# Altium integrated library ON Semi Signal Management Signal Switches.IntLib: 212 symbols (part 4 of 6)
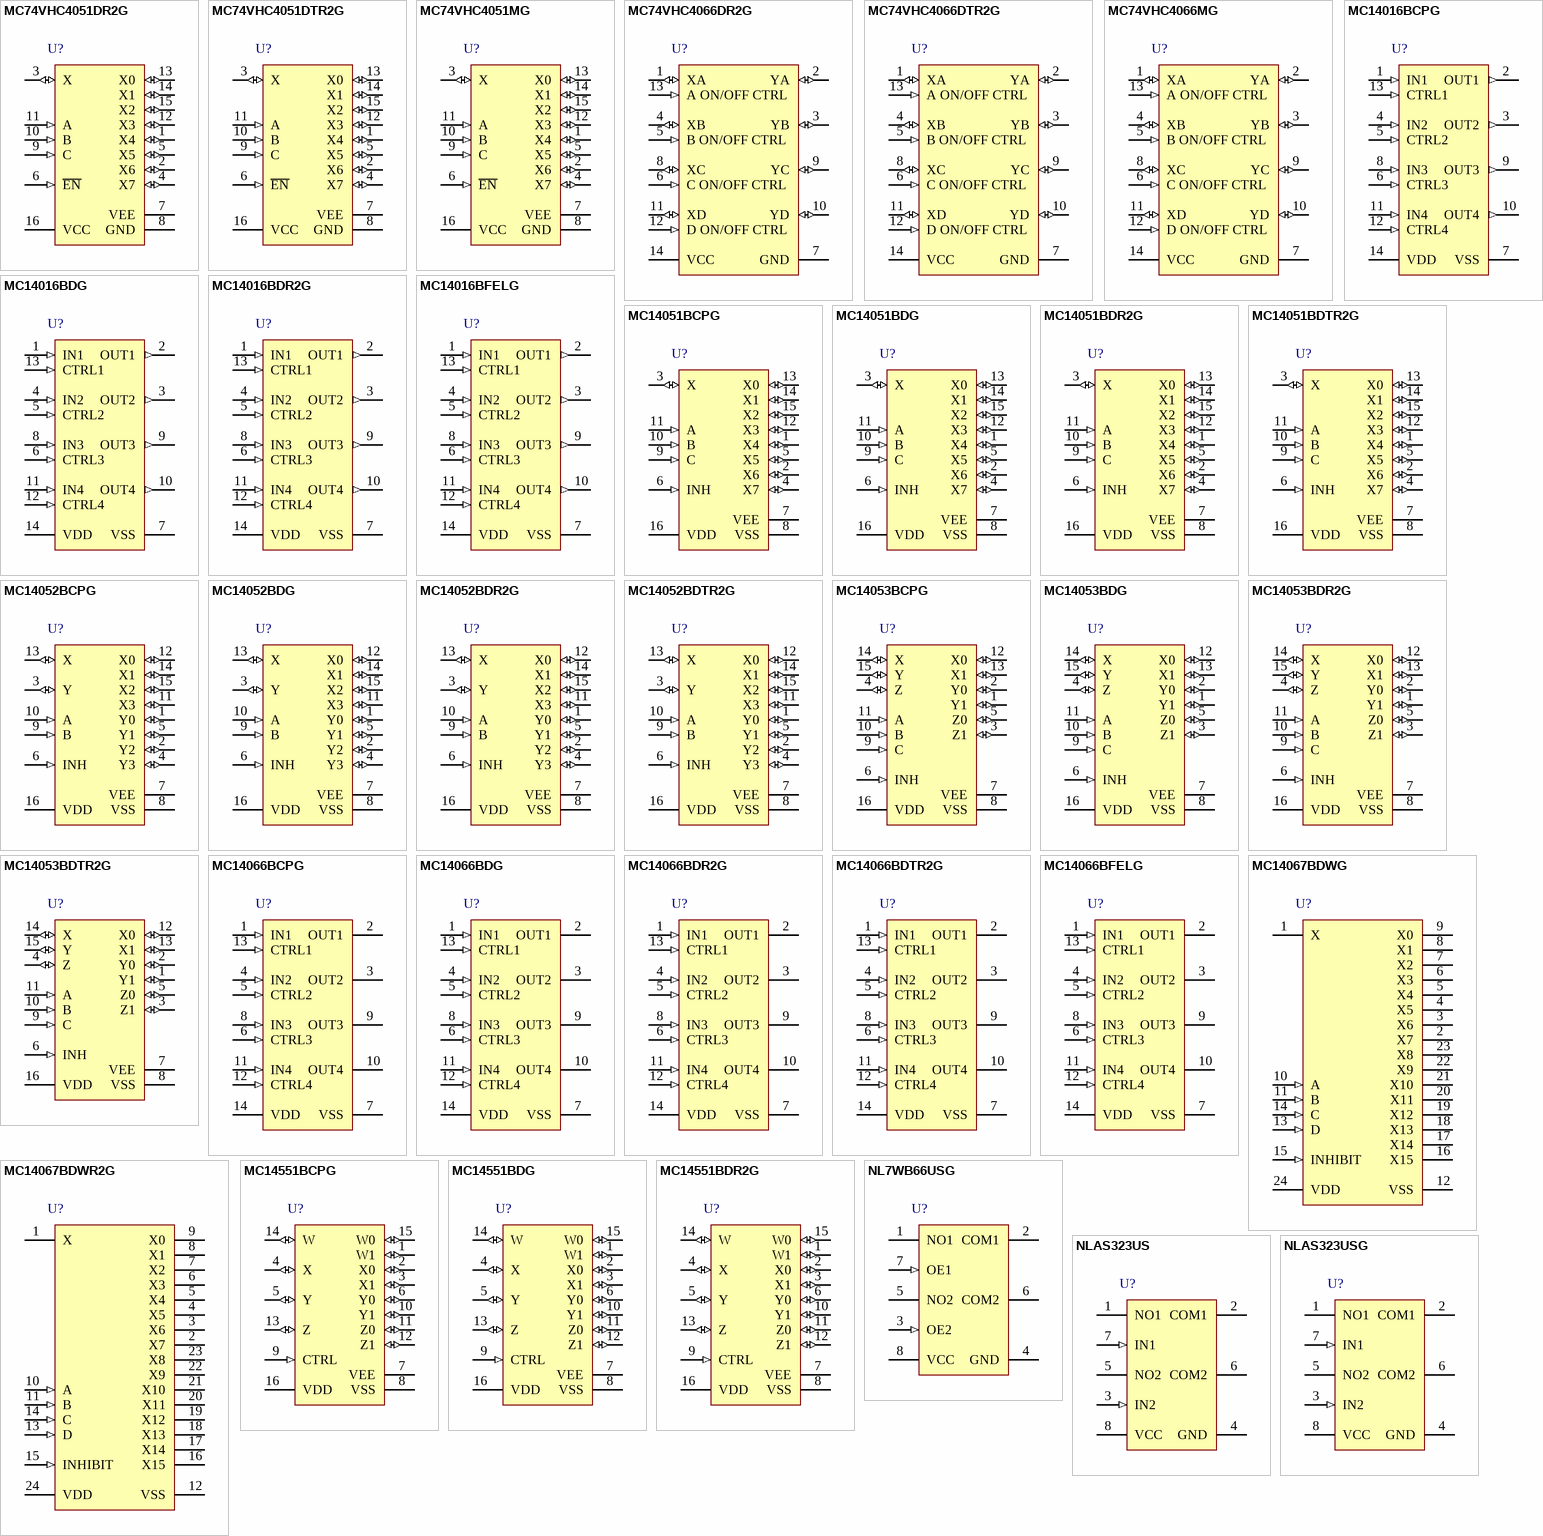
[diagram p9: symbols MC74VHC4051DR2G to NLAS323USG]

## NLAS323USG
designator U?
Dual SPST Analog Switch, Low Voltage, Single Supply, 2 to 5.5 V, -55 to 125 degC, 8-Pin US, Pb-Free, Tape and Reel; Manufacturer: On Semiconductor; PartNumber: NLAS323USG; Icc Max (uA): 2; VCC Max (V): 5.5; DatasheetVersion: Rev. 6; PackageVersion: Rev. A, 06/2003; PackageReference: US-8-493-02_A; PackageDescription: 8-Pin Small Outline Package, Body 2 x 2.3 mm, Pitch 0.5 mm; Supplier 1: Digi-Key; Supplier Part Number 1: NLAS323USGOSTR-ND; Supplier 2: Digi-Key; Supplier Part Number 2: NLAS323USGOSCT-ND; Supplier 3: Digi-Key; Supplier Part Number 3: NLAS323USGOSDKR-ND; Supplier 4: Newark; Supplier Part Number 4: 83H7730; Supplier 5: Mouser; Supplier Part Number 5: 863-NLAS323USG; Packing: Tape and Reel; RoHS: TRUE; VCC Min (V): 2; Mounting Technology: Surface Mount; ComponentLink1Description: Manufacturer URL; ComponentLink1URL: http://www.onsemi.com/; ComponentLink2Description: Datasheet; ComponentLink2URL: http://www.onsemi.com/pub_link/Collateral/NLAS323-D.PDF; ComponentLink3Description: Package Specification; ComponentLink3URL: http://www.onsemi.com/pub_link/Collateral/NLAS323-D.PDF
footprint ONSC-US-8-493-02_A_N (SOP, 8-Leads, Body 2.4x2.1mm, Pitch 0.5mm, IPC Medium Density)
footprint ONSC-US-8-493-02_A_L (SOP, 8-Leads, Body 2.4x2.1mm, Pitch 0.5mm, IPC High Density)
footprint ONSC-US-8-493-02_A_M (SOP, 8-Leads, Body 2.4x2.1mm, Pitch 0.5mm, IPC Low Density)
pins: 1 NO1, 2 COM1, 3 IN2 (in), 4 GND (power), 5 NO2, 6 COM2, 7 IN1 (in), 8 VCC (power)

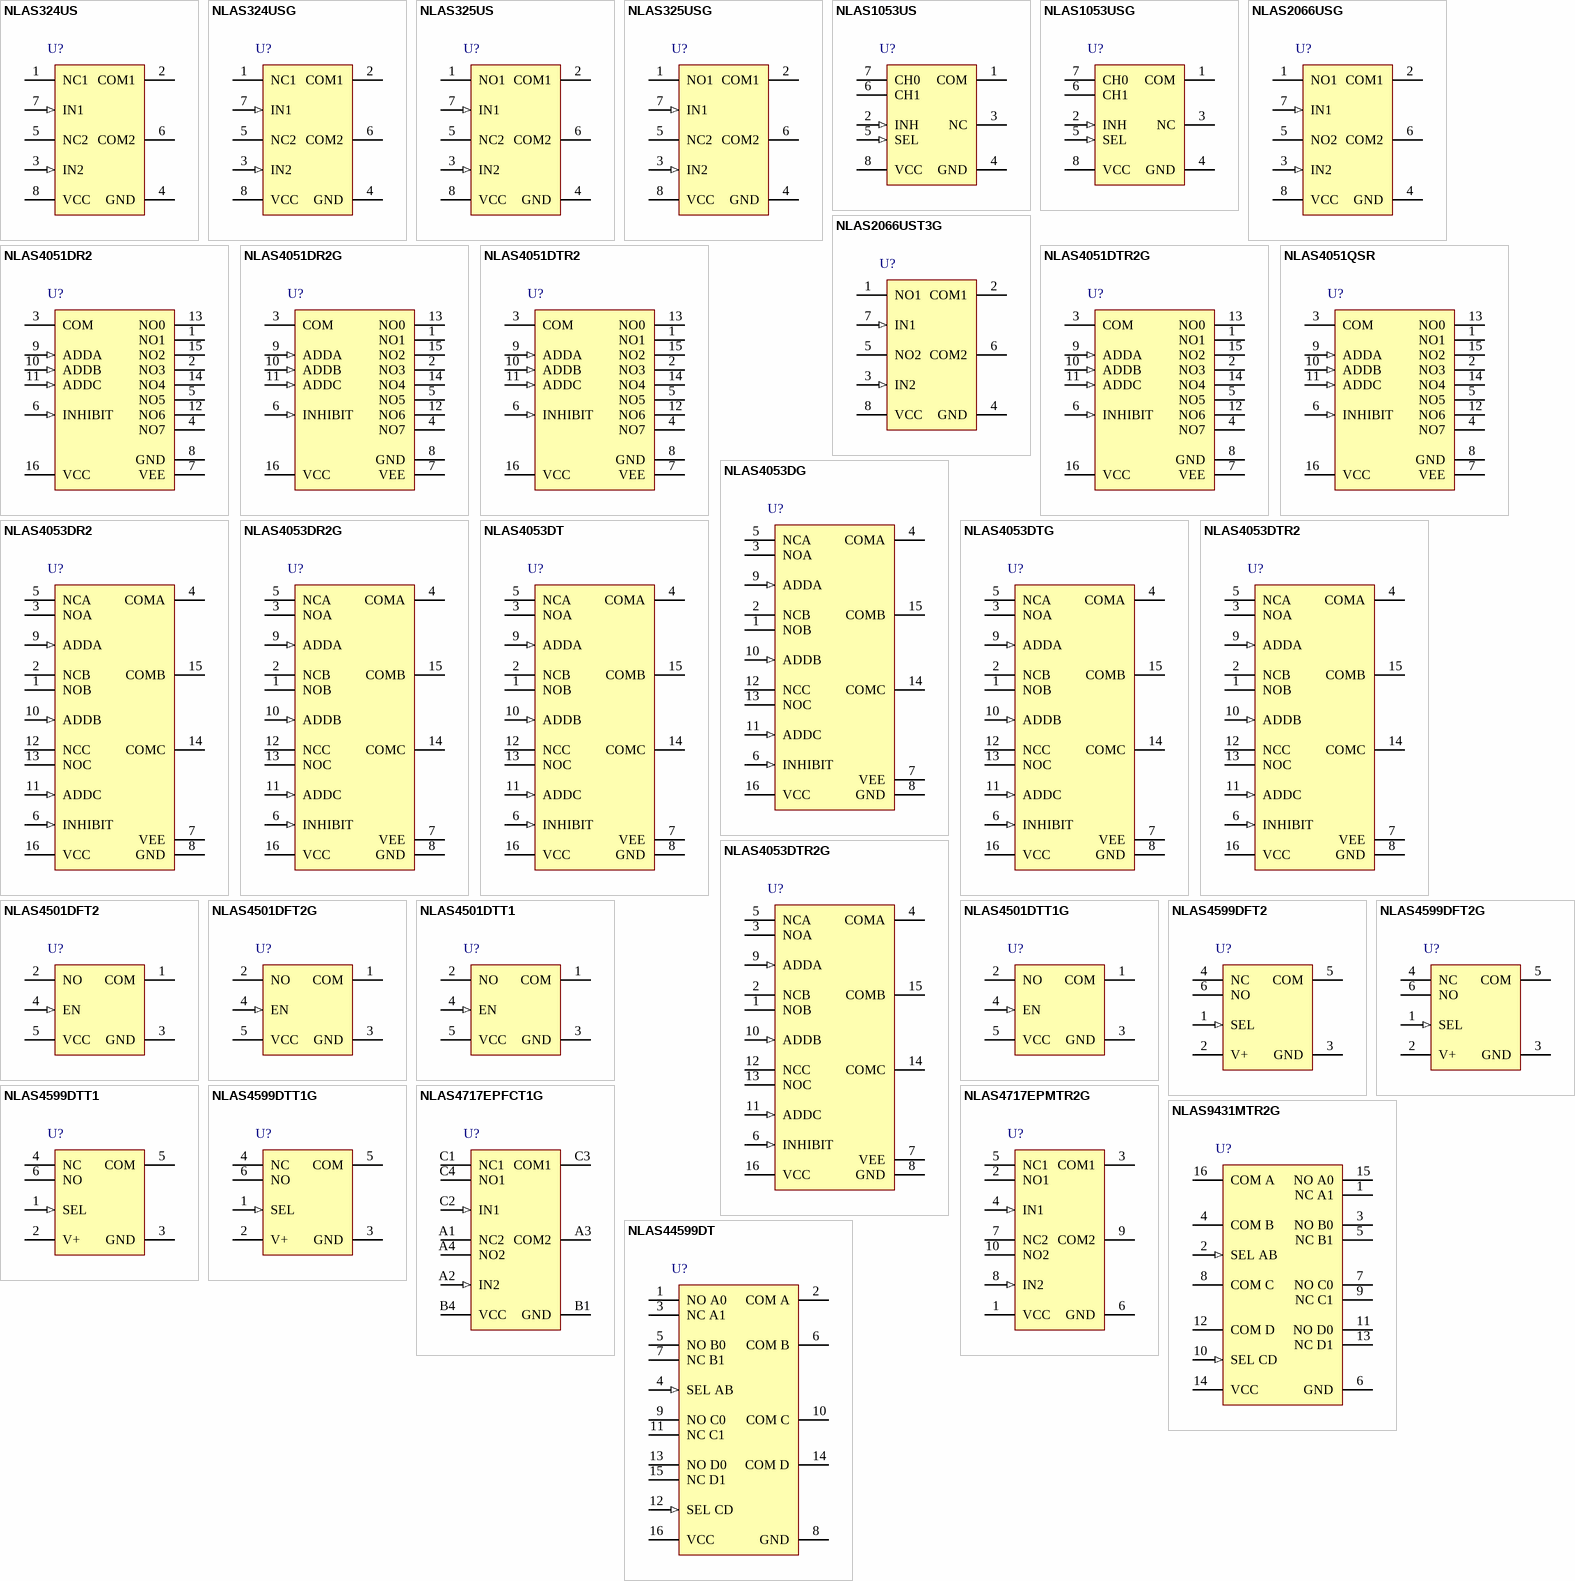
[diagram p3: symbols NLAS324US to NLAS44599DT]

## NLAS324US
designator U?
Dual SPST Analog Switch, Low Voltage, Single Supply, 2 to 5.5 V, -55 to 125 degC, 8-Pin US, Tape and Reel; Manufacturer: On Semiconductor; PartNumber: NLAS324US; Icc Max (uA): 2; VCC Max (V): 5.5; DatasheetVersion: Rev. 7; PackageVersion: Rev. B, 04/2006; PackageReference: US-8-493-02; PackageDescription: 8-Pin Small Outline Package, Body 2 x 2.3 mm, Pitch 0.5 mm; Supplier 1: Digi-Key; Supplier Part Number 1: NLAS324USOSTR-ND; Supplier 2: Digi-Key; Supplier Part Number 2: NLAS324USOSCT-ND; Packing: Tape and Reel; RoHS: FALSE; VCC Min (V): 2; Mounting Technology: Surface Mount; ComponentLink1Description: Manufacturer URL; ComponentLink1URL: http://www.onsemi.com/; ComponentLink2Description: Datasheet; ComponentLink2URL: http://www.onsemi.com/pub_link/Collateral/NLAS324-D.PDF; ComponentLink3Description: Package Specification; ComponentLink3URL: http://www.onsemi.com/pub_link/Collateral/493-01.PDF
footprint ONSC-US-8-493-02_V (SOP, 8-Leads, Body 2.4x2.1mm, Pitch 0.5mm)
pins: 1 NC1, 2 COM1, 3 IN2 (in), 4 GND (power), 5 NC2, 6 COM2, 7 IN1 (in), 8 VCC (power)

## NLAS324USG
designator U?
Dual SPST Analog Switch, Low Voltage, Single Supply, 2 to 5.5 V, -55 to 125 degC, 8-Pin US, Pb-Free, Tape and Reel; Manufacturer: On Semiconductor; PartNumber: NLAS324USG; Icc Max (uA): 2; VCC Max (V): 5.5; DatasheetVersion: Rev. 7; PackageVersion: Rev. B, 04/2006; PackageReference: US-8-493-02; PackageDescription: 8-Pin Small Outline Package, Body 2 x 2.3 mm, Pitch 0.5 mm; Supplier 1: Digi-Key; Supplier Part Number 1: NLAS324USGOSTR-ND; Supplier 2: Digi-Key; Supplier Part Number 2: NLAS324USGOSCT-ND; Supplier 3: Digi-Key; Supplier Part Number 3: NLAS324USGOSDKR-ND; Supplier 4: Mouser; Supplier Part Number 4: 863-NLAS324USG; Packing: Tape and Reel; RoHS: TRUE; VCC Min (V): 2; Mounting Technology: Surface Mount; ComponentLink1Description: Manufacturer URL; ComponentLink1URL: http://www.onsemi.com/; ComponentLink2Description: Datasheet; ComponentLink2URL: http://www.onsemi.com/pub_link/Collateral/NLAS324-D.PDF; ComponentLink3Description: Package Specification; ComponentLink3URL: http://www.onsemi.com/pub_link/Collateral/493-01.PDF
footprint ONSC-US-8-493-02_V (SOP, 8-Leads, Body 2.4x2.1mm, Pitch 0.5mm)
pins: 1 NC1, 2 COM1, 3 IN2 (in), 4 GND (power), 5 NC2, 6 COM2, 7 IN1 (in), 8 VCC (power)

## NLAS325US
designator U?
Dual SPST Analog Switch, Low Voltage, Single Supply, 2 to 5.5 V, -55 to 125 degC, 8-Pin US, Tape and Reel; Manufacturer: On Semiconductor; PartNumber: NLAS325US; Icc Max (uA): 8; VCC Max (V): 5.5; VCC Min (V): 2; DatasheetVersion: Rev. 6; PackageVersion: Rev. B, 04/2006; PackageReference: US-8-493-02; PackageDescription: 8-Pin Small Outline Package, Body 2 x 2.3 mm, Pitch 0.5 mm; Supplier 1: Digi-Key; Supplier Part Number 1: NLAS325USOSTR-ND; Supplier 2: Digi-Key; Supplier Part Number 2: NLAS325USOSCT-ND; Packing: Tape and Reel; RoHS: FALSE; Mounting Technology: Surface Mount; ComponentLink1Description: Manufacturer URL; ComponentLink1URL: http://www.onsemi.com/; ComponentLink2Description: Datasheet; ComponentLink2URL: http://www.onsemi.com/pub_link/Collateral/NLAS325-D.PDF; ComponentLink3Description: Package Specification; ComponentLink3URL: http://www.onsemi.com/pub_link/Collateral/493-01.PDF
footprint ONSC-US-8-493-02_V (SOP, 8-Leads, Body 2.4x2.1mm, Pitch 0.5mm)
pins: 1 NO1, 2 COM1, 3 IN2 (in), 4 GND (power), 5 NC2, 6 COM2, 7 IN1 (in), 8 VCC (power)

## NLAS325USG
designator U?
Dual SPST Analog Switch, Low Voltage, Single Supply, 2 to 5.5 V, -55 to 125 degC, 8-Pin US, Pb-Free, Tape and Reel; Manufacturer: On Semiconductor; PartNumber: NLAS325USG; Icc Max (uA): 8; VCC Max (V): 5.5; VCC Min (V): 2; DatasheetVersion: Rev. 6; PackageVersion: Rev. B, 04/2006; PackageReference: US-8-493-02; PackageDescription: 8-Pin Small Outline Package, Body 2 x 2.3 mm, Pitch 0.5 mm; Supplier 1: Digi-Key; Supplier Part Number 1: NLAS325USGOSTR-ND; Supplier 2: Digi-Key; Supplier Part Number 2: NLAS325USGOSCT-ND; Supplier 3: Mouser; Supplier Part Number 3: 863-NLAS325USG; Packing: Tape and Reel; RoHS: TRUE; Mounting Technology: Surface Mount; ComponentLink1Description: Manufacturer URL; ComponentLink1URL: http://www.onsemi.com/; ComponentLink2Description: Datasheet; ComponentLink2URL: http://www.onsemi.com/pub_link/Collateral/NLAS325-D.PDF; ComponentLink3Description: Package Specification; ComponentLink3URL: http://www.onsemi.com/pub_link/Collateral/493-01.PDF
footprint ONSC-US-8-493-02_V (SOP, 8-Leads, Body 2.4x2.1mm, Pitch 0.5mm)
pins: 1 NO1, 2 COM1, 3 IN2 (in), 4 GND (power), 5 NC2, 6 COM2, 7 IN1 (in), 8 VCC (power)

## NLAS1053US
designator U?
2:1 Mux / Demux Analog Switches, 2 to 5.5 V, -55 to 125 degC, 8-Pin US, Tape and Reel; Manufacturer: On Semiconductor; PartNumber: NLAS1053US; Icc Max (uA): 2; VCC Max (V): 5.5; DatasheetVersion: Rev. 2; PackageVersion: Rev. B, 04/2006; PackageReference: US-8-493-02; PackageDescription: 8-Pin Small Outline Package, Body 2 x 2.3 mm, Pitch 0.5 mm; Supplier 1: Digi-Key; Supplier Part Number 1: NLAS1053USOSTR-ND; Supplier 2: Digi-Key; Supplier Part Number 2: NLAS1053USOSCT-ND; Packing: Tape and Reel; RoHS: FALSE; VCC Min (V): 2; Mounting Technology: Surface Mount; ComponentLink1Description: Manufacturer URL; ComponentLink1URL: http://www.onsemi.com/; ComponentLink2Description: Datasheet; ComponentLink2URL: http://www.onsemi.com/pub_link/Collateral/NLAS1053-D.PDF; ComponentLink3Description: Package Specification; ComponentLink3URL: http://www.onsemi.com/pub_link/Collateral/493-01.PDF
footprint ONSC-US-8-493-02_V (SOP, 8-Leads, Body 2.4x2.1mm, Pitch 0.5mm)
pins: 1 COM, 2 INH (in), 3 NC, 4 GND (power), 5 SEL (in), 6 CH1, 7 CH0, 8 VCC (power)

## NLAS1053USG
designator U?
2:1 Mux / Demux Analog Switches, 2 to 5.5 V, -55 to 125 degC, 8-Pin US, Pb-Free, Tape and Reel; Manufacturer: On Semiconductor; PartNumber: NLAS1053USG; Icc Max (uA): 2; VCC Max (V): 5.5; DatasheetVersion: Rev. 2; PackageVersion: Rev. B, 04/2006; PackageReference: US-8-493-02; PackageDescription: 8-Pin Small Outline Package, Body 2 x 2.3 mm, Pitch 0.5 mm; Supplier 1: Digi-Key; Supplier Part Number 1: NLAS1053USGOSTR-ND; Supplier 2: Digi-Key; Supplier Part Number 2: NLAS1053USGOSCT-ND; Supplier 3: Digi-Key; Supplier Part Number 3: NLAS1053USGOSDKR-ND; Supplier 4: Mouser; Supplier Part Number 4: 863-NLAS1053USG; Packing: Tape and Reel; RoHS: TRUE; VCC Min (V): 2; Mounting Technology: Surface Mount; ComponentLink1Description: Manufacturer URL; ComponentLink1URL: http://www.onsemi.com/; ComponentLink2Description: Datasheet; ComponentLink2URL: http://www.onsemi.com/pub_link/Collateral/NLAS1053-D.PDF; ComponentLink3Description: Package Specification; ComponentLink3URL: http://www.onsemi.com/pub_link/Collateral/493-01.PDF
footprint ONSC-US-8-493-02_V (SOP, 8-Leads, Body 2.4x2.1mm, Pitch 0.5mm)
pins: 1 COM, 2 INH (in), 3 NC, 4 GND (power), 5 SEL (in), 6 CH1, 7 CH0, 8 VCC (power)

## NLAS2066USG
designator U?
Ultra-Small Dual Single Pole, Single Throw Analog Switch with Over Voltage Tolerance, 1.65 to 5.5 V, -55 to 125 degC, 8-Pin US, Pb-Free, Tape and Reel; Manufacturer: On Semiconductor; PartNumber: NLAS2066USG; Icc Max (uA): 2; VCC Max (V): 5.5; VCC Min (V): 1.65; DatasheetVersion: Rev. 7; PackageVersion: Rev. B, 04/2006; PackageReference: US-8-493-02; PackageDescription: 8-Pin Small Outline Package, Body 2 x 2.3 mm, Pitch 0.5 mm; Supplier 1: Digi-Key; Supplier Part Number 1: NLAS2066USGOSTR-ND; Supplier 2: Digi-Key; Supplier Part Number 2: NLAS2066USGOSCT-ND; Supplier 3: Digi-Key; Supplier Part Number 3: NLAS2066USGOSDKR-ND; Supplier 4: Newark; Supplier Part Number 4: 83H7729; Supplier 5: Newark; Supplier Part Number 5: 29X6197; Supplier 6: Mouser; Supplier Part Number 6: 863-NLAS2066USG; Packing: Tape and Reel; RoHS: TRUE; Mounting Technology: Surface Mount; ComponentLink1Description: Manufacturer URL; ComponentLink1URL: http://www.onsemi.com/; ComponentLink2Description: Datasheet; ComponentLink2URL: http://www.onsemi.com/pub_link/Collateral/NLAS2066-D.PDF; ComponentLink3Description: Package Specification; ComponentLink3URL: http://www.onsemi.com/pub_link/Collateral/493-01.PDF
footprint ONSC-US-8-493-02_V (SOP, 8-Leads, Body 2.4x2.1mm, Pitch 0.5mm)
pins: 1 NO1, 2 COM1, 3 IN2 (in), 4 GND (power), 5 NO2, 6 COM2, 7 IN1 (in), 8 VCC (power)

## NLAS2066UST3G
designator U?
Ultra-Small Dual Single Pole, Single Throw Analog Switch with Over Voltage Tolerance, 1.65 to 5.5 V, -55 to 125 degC, 8-Pin US, Pb-Free, Tape and Reel; Manufacturer: On Semiconductor; PartNumber: NLAS2066UST3G; Icc Max (uA): 2; VCC Max (V): 5.5; VCC Min (V): 1.65; DatasheetVersion: Rev. 7; PackageVersion: Rev. B, 04/2006; PackageReference: US-8-493-02; PackageDescription: 8-Pin Small Outline Package, Body 2 x 2.3 mm, Pitch 0.5 mm; Supplier 1: Digi-Key; Supplier Part Number 1: NLAS2066UST3G-ND; Supplier 2: Mouser; Supplier Part Number 2: 863-NLAS2066UST3G; Packing: Tape and Reel; RoHS: TRUE; Mounting Technology: Surface Mount; ComponentLink1Description: Manufacturer URL; ComponentLink1URL: http://www.onsemi.com/; ComponentLink2Description: Datasheet; ComponentLink2URL: http://www.onsemi.com/pub_link/Collateral/NLAS2066-D.PDF; ComponentLink3Description: Package Specification; ComponentLink3URL: http://www.onsemi.com/pub_link/Collateral/493-01.PDF
footprint ONSC-US-8-493-02_V (SOP, 8-Leads, Body 2.4x2.1mm, Pitch 0.5mm)
pins: 1 NO1, 2 COM1, 3 IN2 (in), 4 GND (power), 5 NO2, 6 COM2, 7 IN1 (in), 8 VCC (power)

## NLAS4051DR2
designator U?
Analog Multiplexer / Demultiplexer, TTL Compatible, Single-Pole, 8-Position Plus Common Off, 2.5 to 5.5 V, -55 to 125 degC, 16-Pin SOIC, Tape and Reel; Manufacturer: On Semiconductor; PartNumber: NLAS4051DR2; Icc Max (uA): 80; VCC Max (V): 5.5; VCC Min (V): 2.5; DatasheetVersion: Rev. 3; PackageVersion: Rev. J; PackageReference: SOIC-16-751B-05_J; PackageDescription: 16-Pin Small Outline Integrated Circuit, Body 9.9 x 3.9 mm, Pitch 1.27 mm; Supplier 1: Digi-Key; Supplier Part Number 1: NLAS4051DR2OSTR-ND; Supplier 2: Digi-Key; Supplier Part Number 2: NLAS4051DR2OSCT-ND; Supplier 3: Digi-Key; Supplier Part Number 3: NLAS4051DR2OSDKR-ND; Packing: Tape and Reel; RoHS: FALSE; Mounting Technology: Surface Mount; ComponentLink1Description: Manufacturer URL; ComponentLink1URL: http://www.onsemi.com/; ComponentLink2Description: Datasheet; ComponentLink2URL: http://www.onsemi.com/pub_link/Collateral/NLAS4051-D.PDF; ComponentLink3Description: Package Specification; ComponentLink3URL: http://www.onsemi.com/pub_link/Collateral/MC74AC161-D.PDF
footprint ONSC-SOIC-16-751B-05_J_N (SOIC, 16-Leads, Body 10x4mm, Pitch 1.27mm, IPC Medium Density)
footprint ONSC-SOIC-16-751B-05_J_L (SOIC, 16-Leads, Body 10x4mm, Pitch 1.27mm, IPC High Density)
footprint ONSC-SOIC-16-751B-05_J_M (SOIC, 16-Leads, Body 10x4mm, Pitch 1.27mm, IPC Low Density)
pins: 1 NO1, 2 NO3, 3 COM, 4 NO7, 5 NO5, 6 INHIBIT (in), 7 VEE (power), 8 GND (power), 9 ADDA (in), 10 ADDB (in), 11 ADDC (in), 12 NO6, 13 NO0, 14 NO4, 15 NO2, 16 VCC (power)

## NLAS4051DR2G
designator U?
Analog Multiplexer / Demultiplexer, TTL Compatible, Single-Pole, 8-Position Plus Common Off, 2.5 to 5.5 V, -55 to 125 degC, 16-Pin SOIC, Pb-Free, Tape and Reel; Manufacturer: On Semiconductor; PartNumber: NLAS4051DR2G; Icc Max (uA): 80; VCC Max (V): 5.5; VCC Min (V): 2.5; DatasheetVersion: Rev. 3; PackageVersion: Rev. J; PackageReference: SOIC-16-751B-05_J; PackageDescription: 16-Pin Small Outline Integrated Circuit, Body 9.9 x 3.9 mm, Pitch 1.27 mm; Supplier 1: Digi-Key; Supplier Part Number 1: NLAS4051DR2GOSTR-ND; Supplier 2: Digi-Key; Supplier Part Number 2: NLAS4051DR2GOSCT-ND; Supplier 3: Mouser; Supplier Part Number 3: 863-NLAS4051DR2G; Packing: Tape and Reel; RoHS: TRUE; Mounting Technology: Surface Mount; ComponentLink1Description: Manufacturer URL; ComponentLink1URL: http://www.onsemi.com/; ComponentLink2Description: Datasheet; ComponentLink2URL: http://www.onsemi.com/pub_link/Collateral/NLAS4051-D.PDF; ComponentLink3Description: Package Specification; ComponentLink3URL: http://www.onsemi.com/pub_link/Collateral/MC74AC161-D.PDF
footprint ONSC-SOIC-16-751B-05_J_N (SOIC, 16-Leads, Body 10x4mm, Pitch 1.27mm, IPC Medium Density)
footprint ONSC-SOIC-16-751B-05_J_L (SOIC, 16-Leads, Body 10x4mm, Pitch 1.27mm, IPC High Density)
footprint ONSC-SOIC-16-751B-05_J_M (SOIC, 16-Leads, Body 10x4mm, Pitch 1.27mm, IPC Low Density)
pins: 1 NO1, 2 NO3, 3 COM, 4 NO7, 5 NO5, 6 INHIBIT (in), 7 VEE (power), 8 GND (power), 9 ADDA (in), 10 ADDB (in), 11 ADDC (in), 12 NO6, 13 NO0, 14 NO4, 15 NO2, 16 VCC (power)

## NLAS4051DTR2
designator U?
Analog Multiplexer / Demultiplexer, TTL Compatible, Single-Pole, 8-Position Plus Common Off, 2.5 to 5.5 V, -55 to 125 degC, 16-Pin TSSOP, Pb-Free, Tape and Reel; Manufacturer: On Semiconductor; PartNumber: NLAS4051DTR2; Icc Max (uA): 80; VCC Max (V): 5.5; VCC Min (V): 2.5; DatasheetVersion: Rev. 3; PackageVersion: Rev. A, 01/2005; PackageReference: TSSOP-16-948F-01_A; PackageDescription: 16-Pin Small Outline Package, Body 5 x 4.4 mm, Pitch 0.65 mm; Supplier 1: Digi-Key; Supplier Part Number 1: NLAS4051DTR2OSTR-ND; Supplier 2: Digi-Key; Supplier Part Number 2: NLAS4051DTR2OSCT-ND; Supplier 3: Mouser; Supplier Part Number 3: 863-NLAS4051DTR2; Packing: Tape and Reel; RoHS: FALSE; Mounting Technology: Surface Mount; ComponentLink1Description: Manufacturer URL; ComponentLink1URL: http://www.onsemi.com/; ComponentLink2Description: Datasheet; ComponentLink2URL: http://www.onsemi.com/pub_link/Collateral/NLAS4051-D.PDF; ComponentLink3Description: Package Specification; ComponentLink3URL: http://www.onsemi.cn/pub_link/Collateral/NB3N508S-D.PDF
footprint ONSC-TSSOP-16-948F-01_A_N (SOP, 16-Leads, Body 5x4.4mm, Pitch 0.65mm, IPC Medium Density)
footprint ONSC-TSSOP-16-948F-01_A_L (SOP, 16-Leads, Body 5x4.4mm, Pitch 0.65mm, IPC High Density)
footprint ONSC-TSSOP-16-948F-01_A_M (SOP, 16-Leads, Body 5x4.4mm, Pitch 0.65mm, IPC Low Density)
pins: 1 NO1, 2 NO3, 3 COM, 4 NO7, 5 NO5, 6 INHIBIT (in), 7 VEE (power), 8 GND (power), 9 ADDA (in), 10 ADDB (in), 11 ADDC (in), 12 NO6, 13 NO0, 14 NO4, 15 NO2, 16 VCC (power)

## NLAS4051DTR2G
designator U?
Analog Multiplexer / Demultiplexer, TTL Compatible, Single-Pole, 8-Position Plus Common Off, 2.5 to 5.5 V, -55 to 125 degC, 16-Pin TSSOP, Pb-Free, Tape and Reel; Manufacturer: On Semiconductor; PartNumber: NLAS4051DTR2G; Icc Max (uA): 80; VCC Max (V): 5.5; VCC Min (V): 2.5; DatasheetVersion: Rev. 3; PackageVersion: Rev. A, 01/2005; PackageReference: TSSOP-16-948F-01_A; PackageDescription: 16-Pin Small Outline Package, Body 5 x 4.4 mm, Pitch 0.65 mm; Supplier 1: Digi-Key; Supplier Part Number 1: NLAS4051DTR2GOSTR-ND; Supplier 2: Digi-Key; Supplier Part Number 2: NLAS4051DTR2GOSCT-ND; Supplier 3: Newark; Supplier Part Number 3: 42K2262; Supplier 4: Mouser; Supplier Part Number 4: 863-NLAS4051DTR2G; Packing: Tape and Reel; RoHS: TRUE; Mounting Technology: Surface Mount; ComponentLink1Description: Manufacturer URL; ComponentLink1URL: http://www.onsemi.com/; ComponentLink2Description: Datasheet; ComponentLink2URL: http://www.onsemi.com/pub_link/Collateral/NLAS4051-D.PDF; ComponentLink3Description: Package Specification; ComponentLink3URL: http://www.onsemi.cn/pub_link/Collateral/NB3N508S-D.PDF
footprint ONSC-TSSOP-16-948F-01_A_N (SOP, 16-Leads, Body 5x4.4mm, Pitch 0.65mm, IPC Medium Density)
footprint ONSC-TSSOP-16-948F-01_A_L (SOP, 16-Leads, Body 5x4.4mm, Pitch 0.65mm, IPC High Density)
footprint ONSC-TSSOP-16-948F-01_A_M (SOP, 16-Leads, Body 5x4.4mm, Pitch 0.65mm, IPC Low Density)
pins: 1 NO1, 2 NO3, 3 COM, 4 NO7, 5 NO5, 6 INHIBIT (in), 7 VEE (power), 8 GND (power), 9 ADDA (in), 10 ADDB (in), 11 ADDC (in), 12 NO6, 13 NO0, 14 NO4, 15 NO2, 16 VCC (power)

## NLAS4051QSR
designator U?
Analog Multiplexer / Demultiplexer, TTL Compatible, Single-Pole, 8-Position Plus Common Off, 2.5 to 5.5 V, -55 to 125 degC, 16-Pin QSOP, Tape and Reel; Manufacturer: On Semiconductor; PartNumber: NLAS4051QSR; Icc Max (uA): 80; VCC Max (V): 5.5; VCC Min (V): 2.5; DatasheetVersion: Rev. 3; PackageVersion: Rev. O; PackageReference: QSOP-16-492-01; PackageDescription: 16-Pin Small Outline Package, Body 4.89 x 3.9 mm, Pitch 0.64 mm; Supplier 1: Digi-Key; Supplier Part Number 1: NLAS4051QSROSTR-ND; Supplier 2: Digi-Key; Supplier Part Number 2: NLAS4051QSROSCT-ND; Supplier 3: Mouser; Supplier Part Number 3: N/A; Packing: Tape and Reel; RoHS: FALSE; Mounting Technology: Surface Mount; ComponentLink1Description: Manufacturer URL; ComponentLink1URL: http://www.onsemi.com/; ComponentLink2Description: Datasheet; ComponentLink2URL: http://www.onsemi.com/pub_link/Collateral/NLAS4051-D.PDF; ComponentLink3Description: Package Specification; ComponentLink3URL: http://www.onsemi.com/pub_link/Collateral/NLAS4051-D.PDF
footprint ONSC-QSOP-16-492-01_O_N (SOP, 16-Leads, Body 5x4mm, Pitch 0.64mm, IPC Medium Density)
footprint ONSC-QSOP-16-492-01_O_L (SOP, 16-Leads, Body 5x4mm, Pitch 0.64mm, IPC High Density)
footprint ONSC-QSOP-16-492-01_O_M (SOP, 16-Leads, Body 5x4mm, Pitch 0.64mm, IPC Low Density)
pins: 1 NO1, 2 NO3, 3 COM, 4 NO7, 5 NO5, 6 INHIBIT (in), 7 VEE (power), 8 GND (power), 9 ADDA (in), 10 ADDB (in), 11 ADDC (in), 12 NO6, 13 NO0, 14 NO4, 15 NO2, 16 VCC (power)

## NLAS4053DG
designator U?
Analog Multiplexer / Demultiplexer, Triple 2:1 Analog Switch-Multiplexer Improved Process, Sub-Micron Silicon Gate CMOS, 2.5 to 5.5 V, -55 to 125 degC, 16-Pin SOIC, Pb-Free, Tube; Manufacturer: On Semiconductor; PartNumber: NLAS4053DG; Icc Max (uA): 80; VCC Max (V): 5.5; VCC Min (V): 2.5; DatasheetVersion: Rev. 3; PackageVersion: Rev. K, 12/2006; PackageReference: SOIC-16-751B-05; PackageDescription: 16-Pin Small Outline Integrated Circuit, Body 9.9 x 3.9 mm, Pitch 1.27 mm; Supplier 1: Mouser; Supplier Part Number 1: N/A; Packing: Tube; RoHS: TRUE; Mounting Technology: Surface Mount; ComponentLink1Description: Manufacturer URL; ComponentLink1URL: http://www.onsemi.com/; ComponentLink2Description: Datasheet; ComponentLink2URL: http://www.onsemi.com/pub_link/Collateral/NLAS4053-D.PDF; ComponentLink3Description: Package Specification; ComponentLink3URL: http://www.onsemi.com/pub_link/Collateral/751B-05.PDF
footprint ONSC-SOIC-16-751B-05_V (SOIC, 16-Leads, Body 10x4mm, Pitch 1.27mm)
pins: 1 NOB, 2 NCB, 3 NOA, 4 COMA, 5 NCA, 6 INHIBIT (in), 7 VEE (power), 8 GND (power), 9 ADDA (in), 10 ADDB (in), 11 ADDC (in), 12 NCC, 13 NOC, 14 COMC, 15 COMB, 16 VCC (power)

## NLAS4053DR2
designator U?
Analog Multiplexer / Demultiplexer, Triple 2:1 Analog Switch-Multiplexer Improved Process, Sub-Micron Silicon Gate CMOS, 2.5 to 5.5 V, -55 to 125 degC, 16-Pin SOIC, Tape and Reel; Manufacturer: On Semiconductor; PartNumber: NLAS4053DR2; Icc Max (uA): 80; VCC Max (V): 5.5; VCC Min (V): 2.5; DatasheetVersion: Rev. 3; PackageVersion: Rev. K, 12/2006; PackageReference: SOIC-16-751B-05; PackageDescription: 16-Pin Small Outline Integrated Circuit, Body 9.9 x 3.9 mm, Pitch 1.27 mm; Supplier 1: Digi-Key; Supplier Part Number 1: NLAS4053DR2OSTR-ND; Supplier 2: Digi-Key; Supplier Part Number 2: NLAS4053DR2OSCT-ND; Supplier 3: Digi-Key; Supplier Part Number 3: NLAS4053DR2OSDKR-ND; Packing: Tape and Reel; RoHS: FALSE; Mounting Technology: Surface Mount; ComponentLink1Description: Manufacturer URL; ComponentLink1URL: http://www.onsemi.com/; ComponentLink2Description: Datasheet; ComponentLink2URL: http://www.onsemi.com/pub_link/Collateral/NLAS4053-D.PDF; ComponentLink3Description: Package Specification; ComponentLink3URL: http://www.onsemi.com/pub_link/Collateral/751B-05.PDF
footprint ONSC-SOIC-16-751B-05_V (SOIC, 16-Leads, Body 10x4mm, Pitch 1.27mm)
pins: 1 NOB, 2 NCB, 3 NOA, 4 COMA, 5 NCA, 6 INHIBIT (in), 7 VEE (power), 8 GND (power), 9 ADDA (in), 10 ADDB (in), 11 ADDC (in), 12 NCC, 13 NOC, 14 COMC, 15 COMB, 16 VCC (power)

## NLAS4053DR2G
designator U?
Analog Multiplexer / Demultiplexer, Triple 2:1 Analog Switch-Multiplexer Improved Process, Sub-Micron Silicon Gate CMOS, 2.5 to 5.5 V, -55 to 125 degC, 16-Pin SOIC, Pb-Free, Tape and Reel; Manufacturer: On Semiconductor; PartNumber: NLAS4053DR2G; Icc Max (uA): 80; VCC Max (V): 5.5; VCC Min (V): 2.5; DatasheetVersion: Rev. 3; PackageVersion: Rev. K, 12/2006; PackageReference: SOIC-16-751B-05; PackageDescription: 16-Pin Small Outline Integrated Circuit, Body 9.9 x 3.9 mm, Pitch 1.27 mm; Supplier 1: Digi-Key; Supplier Part Number 1: NLAS4053DR2GOSTR-ND; Supplier 2: Digi-Key; Supplier Part Number 2: NLAS4053DR2GOSCT-ND; Supplier 3: Mouser; Supplier Part Number 3: 863-NLAS4053DR2G; Packing: Tape and Reel; RoHS: TRUE; Mounting Technology: Surface Mount; ComponentLink1Description: Manufacturer URL; ComponentLink1URL: http://www.onsemi.com/; ComponentLink2Description: Datasheet; ComponentLink2URL: http://www.onsemi.com/pub_link/Collateral/NLAS4053-D.PDF; ComponentLink3Description: Package Specification; ComponentLink3URL: http://www.onsemi.com/pub_link/Collateral/751B-05.PDF
footprint ONSC-SOIC-16-751B-05_V (SOIC, 16-Leads, Body 10x4mm, Pitch 1.27mm)
pins: 1 NOB, 2 NCB, 3 NOA, 4 COMA, 5 NCA, 6 INHIBIT (in), 7 VEE (power), 8 GND (power), 9 ADDA (in), 10 ADDB (in), 11 ADDC (in), 12 NCC, 13 NOC, 14 COMC, 15 COMB, 16 VCC (power)

## NLAS4053DT
designator U?
Analog Multiplexer / Demultiplexer, Triple 2:1 Analog Switch-Multiplexer Improved Process, Sub-Micron Silicon Gate CMOS, 2.5 to 5.5 V, -55 to 125 degC, 16-Pin TSSOP, Pb-Free, Tube; Manufacturer: On Semiconductor; PartNumber: NLAS4053DT; Icc Max (uA): 80; VCC Max (V): 5.5; VCC Min (V): 2.5; DatasheetVersion: Rev. 3; PackageVersion: Rev. B, 10/2006; PackageReference: TSSOP-16-948F-01; PackageDescription: 16-Pin Small Outline Package, Body 5 x 4.4 mm, Pitch 0.65 mm; Supplier 1: Digi-Key; Supplier Part Number 1: NLAS4053DT-ND; Supplier 2: Mouser; Supplier Part Number 2: 863-NLAS4053DT; Packing: Tube; RoHS: TRUE; Mounting Technology: Surface Mount; ComponentLink1Description: Manufacturer URL; ComponentLink1URL: http://www.onsemi.com/; ComponentLink2Description: Datasheet; ComponentLink2URL: http://www.onsemi.com/pub_link/Collateral/NLAS4053-D.PDF; ComponentLink3Description: Package Specification; ComponentLink3URL: http://www.onsemi.com/pub_link/Collateral/948F-01.PDF
footprint ONSC-TSSOP-16-948F-01_V (SOP, 16-Leads, Body 5.1x4.5mm, Pitch 0.65mm)
pins: 1 NOB, 2 NCB, 3 NOA, 4 COMA, 5 NCA, 6 INHIBIT (in), 7 VEE (power), 8 GND (power), 9 ADDA (in), 10 ADDB (in), 11 ADDC (in), 12 NCC, 13 NOC, 14 COMC, 15 COMB, 16 VCC (power)

## NLAS4053DTG
designator U?
Analog Multiplexer / Demultiplexer, Triple 2:1 Analog Switch-Multiplexer Improved Process, Sub-Micron Silicon Gate CMOS, 2.5 to 5.5 V, -55 to 125 degC, 16-Pin TSSOP, Pb-Free, Tube; Manufacturer: On Semiconductor; PartNumber: NLAS4053DTG; Icc Max (uA): 80; VCC Max (V): 5.5; VCC Min (V): 2.5; DatasheetVersion: Rev. 3; PackageVersion: Rev. B, 10/2006; PackageReference: TSSOP-16-948F-01; PackageDescription: 16-Pin Small Outline Package, Body 5 x 4.4 mm, Pitch 0.65 mm; Supplier 1: Digi-Key; Supplier Part Number 1: NLAS4053DTG-ND; Supplier 2: Mouser; Supplier Part Number 2: 863-NLAS4053DTG; Packing: Tube; RoHS: TRUE; Mounting Technology: Surface Mount; ComponentLink1Description: Manufacturer URL; ComponentLink1URL: http://www.onsemi.com/; ComponentLink2Description: Datasheet; ComponentLink2URL: http://www.onsemi.com/pub_link/Collateral/NLAS4053-D.PDF; ComponentLink3Description: Package Specification; ComponentLink3URL: http://www.onsemi.com/pub_link/Collateral/948F-01.PDF
footprint ONSC-TSSOP-16-948F-01_V (SOP, 16-Leads, Body 5.1x4.5mm, Pitch 0.65mm)
pins: 1 NOB, 2 NCB, 3 NOA, 4 COMA, 5 NCA, 6 INHIBIT (in), 7 VEE (power), 8 GND (power), 9 ADDA (in), 10 ADDB (in), 11 ADDC (in), 12 NCC, 13 NOC, 14 COMC, 15 COMB, 16 VCC (power)

## NLAS4053DTR2
designator U?
Analog Multiplexer / Demultiplexer, Triple 2:1 Analog Switch-Multiplexer Improved Process, Sub-Micron Silicon Gate CMOS, 2.5 to 5.5 V, -55 to 125 degC, 16-Pin TSSOP, Pb-Free, Tape and Reel; Manufacturer: On Semiconductor; PartNumber: NLAS4053DTR2; Icc Max (uA): 80; VCC Max (V): 5.5; VCC Min (V): 2.5; DatasheetVersion: Rev. 3; PackageVersion: Rev. B, 10/2006; PackageReference: TSSOP-16-948F-01; PackageDescription: 16-Pin Small Outline Package, Body 5 x 4.4 mm, Pitch 0.65 mm; Supplier 1: Digi-Key; Supplier Part Number 1: NLAS4053DTR2OSTR-ND; Supplier 2: Digi-Key; Supplier Part Number 2: NLAS4053DTR2OSCT-ND; Supplier 3: Mouser; Supplier Part Number 3: 863-NLAS4053DTR2; Packing: Tape and Reel; RoHS: TRUE; Mounting Technology: Surface Mount; ComponentLink1Description: Manufacturer URL; ComponentLink1URL: http://www.onsemi.com/; ComponentLink2Description: Datasheet; ComponentLink2URL: http://www.onsemi.com/pub_link/Collateral/NLAS4053-D.PDF; ComponentLink3Description: Package Specification; ComponentLink3URL: http://www.onsemi.com/pub_link/Collateral/948F-01.PDF
footprint ONSC-TSSOP-16-948F-01_V (SOP, 16-Leads, Body 5.1x4.5mm, Pitch 0.65mm)
pins: 1 NOB, 2 NCB, 3 NOA, 4 COMA, 5 NCA, 6 INHIBIT (in), 7 VEE (power), 8 GND (power), 9 ADDA (in), 10 ADDB (in), 11 ADDC (in), 12 NCC, 13 NOC, 14 COMC, 15 COMB, 16 VCC (power)

## NLAS4053DTR2G
designator U?
Analog Multiplexer / Demultiplexer, Triple 2:1 Analog Switch-Multiplexer Improved Process, Sub-Micron Silicon Gate CMOS, 2.5 to 5.5 V, -55 to 125 degC, 16-Pin TSSOP, Pb-Free, Tape and Reel; Manufacturer: On Semiconductor; PartNumber: NLAS4053DTR2G; Icc Max (uA): 80; VCC Max (V): 5.5; VCC Min (V): 2.5; DatasheetVersion: Rev. 3; PackageVersion: Rev. B, 10/2006; PackageReference: TSSOP-16-948F-01; PackageDescription: 16-Pin Small Outline Package, Body 5 x 4.4 mm, Pitch 0.65 mm; Supplier 1: Digi-Key; Supplier Part Number 1: NLAS4053DTR2GOSTR-ND; Supplier 2: Digi-Key; Supplier Part Number 2: NLAS4053DTR2GOSCT-ND; Supplier 3: Mouser; Supplier Part Number 3: 863-NLAS4053DTR2G; Packing: Tape and Reel; RoHS: TRUE; Mounting Technology: Surface Mount; ComponentLink1Description: Manufacturer URL; ComponentLink1URL: http://www.onsemi.com/; ComponentLink2Description: Datasheet; ComponentLink2URL: http://www.onsemi.com/pub_link/Collateral/NLAS4053-D.PDF; ComponentLink3Description: Package Specification; ComponentLink3URL: http://www.onsemi.com/pub_link/Collateral/948F-01.PDF
footprint ONSC-TSSOP-16-948F-01_V (SOP, 16-Leads, Body 5.1x4.5mm, Pitch 0.65mm)
pins: 1 NOB, 2 NCB, 3 NOA, 4 COMA, 5 NCA, 6 INHIBIT (in), 7 VEE (power), 8 GND (power), 9 ADDA (in), 10 ADDB (in), 11 ADDC (in), 12 NCC, 13 NOC, 14 COMC, 15 COMB, 16 VCC (power)

## NLAS4501DFT2
designator U?
Single SPST Analog Switch, 2 to 5.5 V, -55 to 125 degC, 5-Pin SC-88A, Tape and Reel; Manufacturer: On Semiconductor; PartNumber: NLAS4501DFT2; Icc Max (uA): 1; VCC Max (V): 5.5; VCC Min (V): 2; DatasheetVersion: Rev. 5; PackageVersion: Rev. L, 01/2013; PackageReference: SC-88A-5-419A-02; PackageDescription: 5-Pin Small Outline Transistor, Body 2 x 1.25 mm, Pitch 0.65 mm; Supplier 1: Digi-Key; Supplier Part Number 1: NLAS4501DFT2-ND; Packing: Tape and Reel; RoHS: FALSE; Mounting Technology: Surface Mount; ComponentLink1Description: Manufacturer URL; ComponentLink1URL: http://www.onsemi.com/; ComponentLink2Description: Datasheet; ComponentLink2URL: http://www.onsemi.com/pub_link/Collateral/NLAS4501-D.PDF; ComponentLink3Description: Package Specification; ComponentLink3URL: http://www.onsemi.cn/pub_link/Collateral/419A-02.PDF
footprint ONSC-SC-88A-5-419A-02_V (SOT23, 5-Leads, Body 2.2x1.35mm, Pitch 0.65mm)
pins: 1 COM, 2 NO, 3 GND (power), 4 EN (in), 5 VCC (power)

## NLAS4501DFT2G
designator U?
Single SPST Analog Switch, 2 to 5.5 V, -55 to 125 degC, 5-Pin SC-88A, Pb-Free, Tape and Reel; Manufacturer: On Semiconductor; PartNumber: NLAS4501DFT2G; Icc Max (uA): 1; VCC Max (V): 5.5; VCC Min (V): 2; DatasheetVersion: Rev. 5; PackageVersion: Rev. L, 01/2013; PackageReference: SC-88A-5-419A-02; PackageDescription: 5-Pin Small Outline Transistor, Body 2 x 1.25 mm, Pitch 0.65 mm; Supplier 1: Digi-Key; Supplier Part Number 1: NLAS4501DFT2GOSTR-ND; Supplier 2: Digi-Key; Supplier Part Number 2: NLAS4501DFT2GOSCT-ND; Supplier 3: Digi-Key; Supplier Part Number 3: NLAS4501DFT2GOSDKR-ND; Supplier 4: Newark; Supplier Part Number 4: 67H7137; Supplier 5: Mouser; Supplier Part Number 5: 863-NLAS4501DFT2G; Packing: Tape and Reel; RoHS: TRUE; Mounting Technology: Surface Mount; ComponentLink1Description: Manufacturer URL; ComponentLink1URL: http://www.onsemi.com/; ComponentLink2Description: Datasheet; ComponentLink2URL: http://www.onsemi.com/pub_link/Collateral/NLAS4501-D.PDF; ComponentLink3Description: Package Specification; ComponentLink3URL: http://www.onsemi.cn/pub_link/Collateral/419A-02.PDF
footprint ONSC-SC-88A-5-419A-02_V (SOT23, 5-Leads, Body 2.2x1.35mm, Pitch 0.65mm)
pins: 1 COM, 2 NO, 3 GND (power), 4 EN (in), 5 VCC (power)

## NLAS4501DTT1
designator U?
Single SPST Analog Switch, 2 to 5.5 V, -55 to 125 degC, 5-Pin TSOP, Tape and Reel; Manufacturer: On Semiconductor; PartNumber: NLAS4501DTT1; Icc Max (uA): 1; VCC Max (V): 5.5; VCC Min (V): 2; DatasheetVersion: Rev. 5; PackageVersion: Rev. K, 04/2013; PackageReference: TSOP-5-483-02; PackageDescription: 5-Pin Small Outline Package, Body 3 x 1.5 mm, Pitch 0.95 mm; Supplier 1: Digi-Key; Supplier Part Number 1: NLAS4501DTT1OSTR-ND; Supplier 2: Digi-Key; Supplier Part Number 2: NLAS4501DTT1OSCT-ND; Packing: Tape and Reel; RoHS: FALSE; Mounting Technology: Surface Mount; ComponentLink1Description: Manufacturer URL; ComponentLink1URL: http://www.onsemi.com/; ComponentLink2Description: Datasheet; ComponentLink2URL: http://www.onsemi.com/pub_link/Collateral/NLAS4501-D.PDF; ComponentLink3Description: Package Specification; ComponentLink3URL: http://www.onsemi.com/pub_link/Collateral/483.PDF
footprint ONSC-TSOP-5-483-02_V (SOP, 5-Leads, Body 3x1.5mm, Pitch 0.95mm)
pins: 1 COM, 2 NO, 3 GND (power), 4 EN (in), 5 VCC (power)

## NLAS4501DTT1G
designator U?
Single SPST Analog Switch, 2 to 5.5 V, -55 to 125 degC, 5-Pin TSOP, Pb-Free, Tape and Reel; Manufacturer: On Semiconductor; PartNumber: NLAS4501DTT1G; Icc Max (uA): 1; VCC Max (V): 5.5; VCC Min (V): 2; DatasheetVersion: Rev. 5; PackageVersion: Rev. K, 04/2013; PackageReference: TSOP-5-483-02; PackageDescription: 5-Pin Small Outline Package, Body 3 x 1.5 mm, Pitch 0.95 mm; Supplier 1: Digi-Key; Supplier Part Number 1: NLAS4501DTT1GOSTR-ND; Supplier 2: Digi-Key; Supplier Part Number 2: NLAS4501DTT1GOSCT-ND; Supplier 3: Digi-Key; Supplier Part Number 3: NLAS4501DTT1GOSDKR-ND; Supplier 4: Newark; Supplier Part Number 4: 71J6943; Supplier 5: Mouser; Supplier Part Number 5: 863-NLAS4501DTT1G; Packing: Tape and Reel; RoHS: TRUE; Mounting Technology: Surface Mount; ComponentLink1Description: Manufacturer URL; ComponentLink1URL: http://www.onsemi.com/; ComponentLink2Description: Datasheet; ComponentLink2URL: http://www.onsemi.com/pub_link/Collateral/NLAS4501-D.PDF; ComponentLink3Description: Package Specification; ComponentLink3URL: http://www.onsemi.com/pub_link/Collateral/483.PDF
footprint ONSC-TSOP-5-483-02_V (SOP, 5-Leads, Body 3x1.5mm, Pitch 0.95mm)
pins: 1 COM, 2 NO, 3 GND (power), 4 EN (in), 5 VCC (power)

## NLAS4599DFT2
designator U?
Low Voltage Single Supply SPDT Analog Switch, 2 to 5.5 V, -55 to 125 degC, 6-Pin SC70, Tape and Reel; Manufacturer: On Semiconductor; PartNumber: NLAS4599DFT2; Icc Max (uA): 2; VCC Max (V): 5.5; DatasheetVersion: Rev. 11; PackageVersion: Rev. W, 01/2006; PackageReference: SC70-6-419B-02_W; PackageDescription: 6-Pin Small Outline Transistor, Body 2 x 1.25 mm, Pitch 0.65 mm; Supplier 1: Digi-Key; Supplier Part Number 1: NLAS4599DFT2OSTR-ND; Supplier 2: Digi-Key; Supplier Part Number 2: NLAS4599DFT2OSCT-ND; Packing: Tape and Reel; RoHS: FALSE; VCC Min (V): 2; Mounting Technology: Surface Mount; ComponentLink1Description: Manufacturer URL; ComponentLink1URL: http://www.onsemi.com/; ComponentLink2Description: Datasheet; ComponentLink2URL: http://www.onsemi.com/pub_link/Collateral/NLAS4599-D.PDF; ComponentLink3Description: Package Specification; ComponentLink3URL: http://www.onsemi.com/pub_link/Collateral/SMF05C-D.PDF
footprint ONSC-SC70-6-419B-02_W_V (SOT23, 6-Leads, Body 2.2x1.35mm, Pitch 0.65mm)
pins: 1 SEL (in), 2 V+ (power), 3 GND (power), 4 NC, 5 COM, 6 NO

## NLAS4599DFT2G
designator U?
Low Voltage Single Supply SPDT Analog Switch, 2 to 5.5 V, -55 to 125 degC, 6-Pin SC70, Pb-Free, Tape and Reel; Manufacturer: On Semiconductor; PartNumber: NLAS4599DFT2G; Icc Max (uA): 2; VCC Max (V): 5.5; DatasheetVersion: Rev. 11; PackageVersion: Rev. W, 01/2006; PackageReference: SC70-6-419B-02_W; PackageDescription: 6-Pin Small Outline Transistor, Body 2 x 1.25 mm, Pitch 0.65 mm; Supplier 1: Digi-Key; Supplier Part Number 1: NLAS4599DFT2GOSTR-ND; Supplier 2: Digi-Key; Supplier Part Number 2: NLAS4599DFT2GOSCT-ND; Supplier 3: Digi-Key; Supplier Part Number 3: NLAS4599DFT2GOSDKR-ND; Supplier 4: Farnell; Supplier Part Number 4: 2318468; Supplier 5: Newark; Supplier Part Number 5: 38X5946; Supplier 6: Newark; Supplier Part Number 6: 90W0799; Supplier 7: Newark; Supplier Part Number 7: 45J2052; Supplier 8: Mouser; Supplier Part Number 8: 863-NLAS4599DFT2G; Packing: Tape and Reel; RoHS: TRUE; VCC Min (V): 2; Mounting Technology: Surface Mount; ComponentLink1Description: Manufacturer URL; ComponentLink1URL: http://www.onsemi.com/; ComponentLink2Description: Datasheet; ComponentLink2URL: http://www.onsemi.com/pub_link/Collateral/NLAS4599-D.PDF; ComponentLink3Description: Package Specification; ComponentLink3URL: http://www.onsemi.com/pub_link/Collateral/SMF05C-D.PDF
footprint ONSC-SC70-6-419B-02_W_V (SOT23, 6-Leads, Body 2.2x1.35mm, Pitch 0.65mm)
pins: 1 SEL (in), 2 V+ (power), 3 GND (power), 4 NC, 5 COM, 6 NO

## NLAS4599DTT1
designator U?
Low Voltage Single Supply SPDT Analog Switch, 2 to 5.5 V, -55 to 125 degC, 6-Pin TSOP, Tape and Reel; Manufacturer: On Semiconductor; PartNumber: NLAS4599DTT1; Icc Max (uA): 2; VCC Max (V): 5.5; DatasheetVersion: Rev. 11; PackageVersion: Rev. T, 02/2008; PackageReference: TSOP-6-318G-02_T; PackageDescription: 6-Pin Small Outline Package, Body 1.5 x 3 mm, Pitch 0.95 mm; Supplier 1: Digi-Key; Supplier Part Number 1: NLAS4599DTT1OS-ND; Packing: Tape and Reel; RoHS: FALSE; VCC Min (V): 2; Mounting Technology: Surface Mount; ComponentLink1Description: Manufacturer URL; ComponentLink1URL: http://www.onsemi.com/; ComponentLink2Description: Datasheet; ComponentLink2URL: http://www.onsemi.com/pub_link/Collateral/NLAS4599-D.PDF; ComponentLink3Description: Package Specification; ComponentLink3URL: http://www.onsemi.com/pub_link/Collateral/NSS20300MR6T1G-D.PDF
footprint ONSC-TSOP-6-318G-02_T_V (SOP, 6-Leads, Body 3x1.5mm, Pitch 0.95mm)
pins: 1 SEL (in), 2 V+ (power), 3 GND (power), 4 NC, 5 COM, 6 NO

## NLAS4599DTT1G
designator U?
Low Voltage Single Supply SPDT Analog Switch, 2 to 5.5 V, -55 to 125 degC, 6-Pin TSOP, Pb-Free, Tape and Reel; Manufacturer: On Semiconductor; PartNumber: NLAS4599DTT1G; Icc Max (uA): 2; VCC Max (V): 5.5; DatasheetVersion: Rev. 11; PackageVersion: Rev. T, 02/2008; PackageReference: TSOP-6-318G-02_T; PackageDescription: 6-Pin Small Outline Package, Body 1.5 x 3 mm, Pitch 0.95 mm; Supplier 1: Digi-Key; Supplier Part Number 1: NLAS4599DTT1GOSTR-ND; Supplier 2: Digi-Key; Supplier Part Number 2: NLAS4599DTT1GOSCT-ND; Supplier 3: Digi-Key; Supplier Part Number 3: NLAS4599DTT1GOSDKR-ND; Supplier 4: Farnell; Supplier Part Number 4: 1468781; Supplier 5: Farnell; Supplier Part Number 5: 1468781RL; Supplier 6: Newark; Supplier Part Number 6: 71J6944; Supplier 7: Mouser; Supplier Part Number 7: 863-NLAS4599DTT1G; Packing: Tape and Reel; RoHS: TRUE; VCC Min (V): 2; Mounting Technology: Surface Mount; ComponentLink1Description: Manufacturer URL; ComponentLink1URL: http://www.onsemi.com/; ComponentLink2Description: Datasheet; ComponentLink2URL: http://www.onsemi.com/pub_link/Collateral/NLAS4599-D.PDF; ComponentLink3Description: Package Specification; ComponentLink3URL: http://www.onsemi.com/pub_link/Collateral/NSS20300MR6T1G-D.PDF
footprint ONSC-TSOP-6-318G-02_T_V (SOP, 6-Leads, Body 3x1.5mm, Pitch 0.95mm)
pins: 1 SEL (in), 2 V+ (power), 3 GND (power), 4 NC, 5 COM, 6 NO

## NLAS4717EPFCT1G
designator U?
4.5 Ohm High Bandwidth, Dual SPDT Analog Switch, 1.8 to 5.5 V, -40 to 85 degC, 10-Pin FLIP-CHIP, Pb-Free, Tape and Reel; Manufacturer: On Semiconductor; PartNumber: NLAS4717EPFCT1G; Icc Max (uA): 1; VCC Max (V): 5.5; VCC Min (V): 1.8; DatasheetVersion: Rev. 7; PackageVersion: Rev. A, 05/2004; PackageReference: FLIP-CHIP-10-489AA-01; PackageDescription: 10-Ball Flip Chip Ball Grid Array, Body 1.965 x 1.465 mm, Pitch 0.5 mm; Supplier 1: Digi-Key; Supplier Part Number 1: NLAS4717EPFCT1GOSTR-ND; Supplier 2: Digi-Key; Supplier Part Number 2: NLAS4717EPFCT1GOSCT-ND; Supplier 3: Mouser; Supplier Part Number 3: 863-NLAS4717EPFCT1G; Packing: Tape and Reel; RoHS: TRUE; Mounting Technology: Surface Mount; ComponentLink1Description: Manufacturer URL; ComponentLink1URL: http://www.onsemi.com/; ComponentLink2Description: Datasheet; ComponentLink2URL: http://www.onsemi.com/pub_link/Collateral/NLAS4717EP-D.PDF; ComponentLink3Description: Package Specification; ComponentLink3URL: http://www.onsemi.cn/pub_link/Collateral/489AA.PDF
footprint ONSC-FLIP-CHIP-10-489AA-01 (BGA, 10-Balls, Body 1.97x1.47mm, Pitch 0.5mm)
pins: A1 NC2, A2 IN2 (in), A3 COM2, A4 NO2, B1 GND (power), B4 VCC (power), C1 NC1, C2 IN1 (in), C3 COM1, C4 NO1

## NLAS4717EPMTR2G
designator U?
4.5 Ohm High Bandwidth, Dual SPDT Analog Switch, 1.8 to 5.5 V, -40 to 85 degC, 10-Pin WQFN, Pb-Free, Tape and Reel; Manufacturer: On Semiconductor; PartNumber: NLAS4717EPMTR2G; Icc Max (uA): 1; VCC Max (V): 5.5; VCC Min (V): 1.8; DatasheetVersion: Rev. 7; PackageVersion: Rev. C, 06/2007; PackageReference: WQFN-10-488AQ-01; PackageDescription: 10-Pin Quad Flat No-Lead, Body 1.4 x 1.8 mm, Pitch 0.4 mm; Supplier 1: Digi-Key; Supplier Part Number 1: NLAS4717EPMTR2GOSTR-ND; Supplier 2: Digi-Key; Supplier Part Number 2: NLAS4717EPMTR2GOSCT-ND; Supplier 3: Digi-Key; Supplier Part Number 3: NLAS4717EPMTR2GOSDKR-ND; Supplier 4: Newark; Supplier Part Number 4: 02M9874; Supplier 5: Mouser; Supplier Part Number 5: 863-NLAS4717EPMTR2G; Packing: Tape and Reel; RoHS: TRUE; Mounting Technology: Surface Mount; ComponentLink1Description: Manufacturer URL; ComponentLink1URL: http://www.onsemi.com/; ComponentLink2Description: Datasheet; ComponentLink2URL: http://www.onsemi.com/pub_link/Collateral/NLAS4717EP-D.PDF; ComponentLink3Description: Package Specification; ComponentLink3URL: http://www.onsemi.cn/pub_link/Collateral/488AQ.PDF
footprint ONSC-WQFN-10-488AQ-01_V (QFN, 10-Leads, Body 1.8x1.4mm, Pitch 0.4mm)
pins: 1 VCC (power), 2 NO1, 3 COM1, 4 IN1 (in), 5 NC1, 6 GND (power), 7 NC2, 8 IN2 (in), 9 COM2, 10 NO2

## NLAS9431MTR2G
designator U?
Low Voltage Single Supply Dual DPDT Analog Switch, 2 to 5.5 V, -55 to 125 degC, 16-Pin WQFN, Pb-Free, Tape and Reel; Manufacturer: On Semiconductor; PartNumber: NLAS9431MTR2G; Icc Max (uA): 8; VCC Max (V): 5.5; VCC Min (V): 2; DatasheetVersion: Rev. 1; PackageVersion: Rev. B, 06/2008; PackageReference: WQFN-16-488AP-01; PackageDescription: 16-Pin Quad Flat No-Lead, Body 1.8 x 2.6 mm, Pitch 0.4 mm; Supplier 1: Digi-Key; Supplier Part Number 1: NLAS9431MTR2GOSTR-ND; Supplier 2: Digi-Key; Supplier Part Number 2: NLAS9431MTR2GOSCT-ND; Supplier 3: Mouser; Supplier Part Number 3: 863-NLAS9431MTR2G; Packing: Tape and Reel; RoHS: TRUE; Mounting Technology: Surface Mount; ComponentLink1Description: Manufacturer URL; ComponentLink1URL: http://www.onsemi.com/; ComponentLink2Description: Datasheet; ComponentLink2URL: http://www.onsemi.cn/pub_link/Collateral/NLAS9431-D.PDF; ComponentLink3Description: Package Specification; ComponentLink3URL: http://www.onsemi.cn/pub_link/Collateral/488AP.PDF
footprint ONSC-WQFN-16-488AP-01_V (QFN, 16-Leads, Body 2.6x1.8mm, Pitch 0.4mm)
pins: 1 NC A1, 2 SEL AB (in), 3 NO B0, 4 COM B, 5 NC B1, 6 GND (power), 7 NO C0, 8 COM C, 9 NC C1, 10 SEL CD (in), 11 NO D0, 12 COM D, 13 NC D1, 14 VCC (power), 15 NO A0, 16 COM A

## NLAS44599DT
designator U?
Low Voltage Single Supply Dual DPDT Analog Switch, 2 to 5.5 V, -55 to 125 degC, 16-Pin TSSOP, Pb-Free, Tube; Manufacturer: On Semiconductor; PartNumber: NLAS44599DT; Icc Max (uA): 8; VCC Max (V): 5.5; VCC Min (V): 2; DatasheetVersion: Rev. 14; PackageVersion: Rev. B, 10/2006; PackageReference: TSSOP-16-948F-01; PackageDescription: 16-Pin Small Outline Package, Body 5 x 4.4 mm, Pitch 0.65 mm; Supplier 1: Digi-Key; Supplier Part Number 1: NLAS44599DT-ND; Supplier 2: Mouser; Supplier Part Number 2: 863-NLAS44599DT; Packing: Tube; RoHS: TRUE; Mounting Technology: Surface Mount; ComponentLink1Description: Manufacturer URL; ComponentLink1URL: http://www.onsemi.com/; ComponentLink2Description: Datasheet; ComponentLink2URL: http://www.onsemi.com/pub_link/Collateral/NLAS44599-D.PDF; ComponentLink3Description: Package Specification; ComponentLink3URL: http://www.onsemi.com/pub_link/Collateral/948F-01.PDF
footprint ONSC-TSSOP-16-948F-01_V (SOP, 16-Leads, Body 5.1x4.5mm, Pitch 0.65mm)
pins: 1 NO A0, 2 COM A, 3 NC A1, 4 SEL AB (in), 5 NO B0, 6 COM B, 7 NC B1, 8 GND (power), 9 NO C0, 10 COM C, 11 NC C1, 12 SEL CD (in), 13 NO D0, 14 COM D, 15 NC D1, 16 VCC (power)

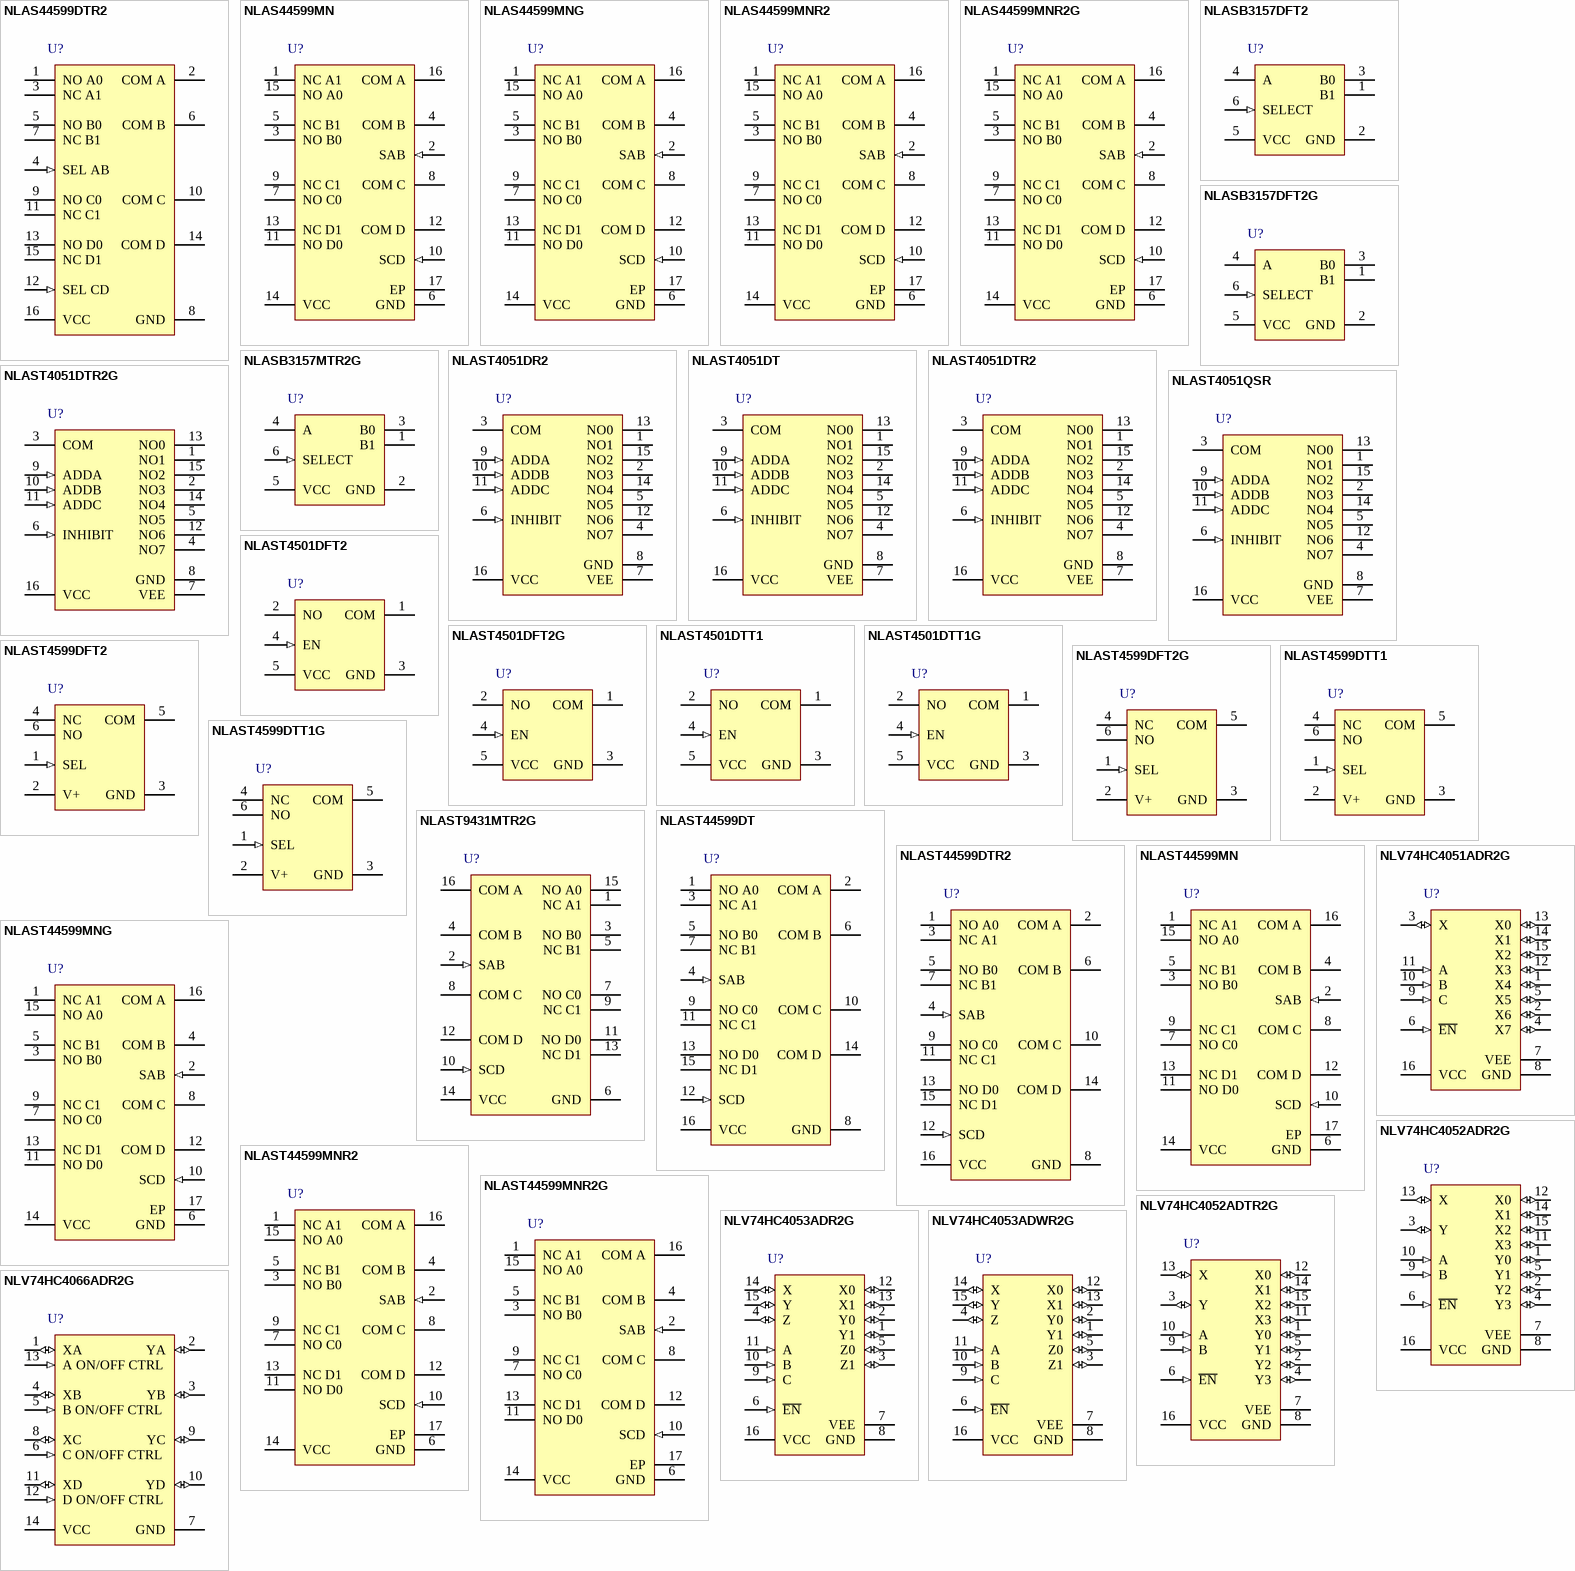
[diagram p4: symbols NLAS44599DTR2 to NLV74HC4066ADR2G]

## NLAS44599DTR2
designator U?
Low Voltage Single Supply Dual DPDT Analog Switch, 2 to 5.5 V, -55 to 125 degC, 16-Pin TSSOP, Pb-Free, Tape and Reel; Manufacturer: On Semiconductor; PartNumber: NLAS44599DTR2; Icc Max (uA): 8; VCC Max (V): 5.5; VCC Min (V): 2; DatasheetVersion: Rev. 14; PackageVersion: Rev. B, 10/2006; PackageReference: TSSOP-16-948F-01; PackageDescription: 16-Pin Small Outline Package, Body 5 x 4.4 mm, Pitch 0.65 mm; Supplier 1: Digi-Key; Supplier Part Number 1: NLAS44599DTR2OSTR-ND; Supplier 2: Digi-Key; Supplier Part Number 2: NLAS44599DTR2OSCT-ND; Supplier 3: Mouser; Supplier Part Number 3: 863-NLAS44599DTR2; Packing: Tape and Reel; RoHS: TRUE; Mounting Technology: Surface Mount; ComponentLink1Description: Manufacturer URL; ComponentLink1URL: http://www.onsemi.com/; ComponentLink2Description: Datasheet; ComponentLink2URL: http://www.onsemi.com/pub_link/Collateral/NLAS44599-D.PDF; ComponentLink3Description: Package Specification; ComponentLink3URL: http://www.onsemi.com/pub_link/Collateral/948F-01.PDF
footprint ONSC-TSSOP-16-948F-01_V (SOP, 16-Leads, Body 5.1x4.5mm, Pitch 0.65mm)
pins: 1 NO A0, 2 COM A, 3 NC A1, 4 SEL AB (in), 5 NO B0, 6 COM B, 7 NC B1, 8 GND (power), 9 NO C0, 10 COM C, 11 NC C1, 12 SEL CD (in), 13 NO D0, 14 COM D, 15 NC D1, 16 VCC (power)

## NLAS44599MN
designator U?
Low Voltage Single Supply Dual DPDT Analog Switch, 2 to 5.5 V, -55 to 125 degC, 16-Pin QFN, Tube; Manufacturer: On Semiconductor; PartNumber: NLAS44599MN; Icc Max (uA): 8; VCC Max (V): 5.5; VCC Min (V): 2; DatasheetVersion: Rev. 14; PackageVersion: Rev. D, 06/2008; PackageReference: QFN-16-485G-01_D; PackageDescription: 16-Pin Quad Flat No-Lead, Body 3 x 3 mm, Pitch 0.5 mm; Supplier 1: Digi-Key; Supplier Part Number 1: NLAS44599MNOS-ND; Supplier 2: Mouser; Supplier Part Number 2: 863-NLAS44599MN; Packing: Tube; RoHS: FALSE; Mounting Technology: Surface Mount; ComponentLink1Description: Manufacturer URL; ComponentLink1URL: http://www.onsemi.com/; ComponentLink2Description: Datasheet; ComponentLink2URL: http://www.onsemi.com/pub_link/Collateral/NLAS44599-D.PDF; ComponentLink3Description: Package Specification; ComponentLink3URL: http://www.onsemi.cn/pub_link/Collateral/NB4L52-D.PDF
footprint ONSC-QFN-16-485G-01_D_V (QFN, 16-Leads, Body 3x3mm, Pitch 0.5mm, Thermal Pad 1.5x1.5mm)
pins: 1 NC A1, 2 SAB (in), 3 NO B0, 4 COM B, 5 NC B1, 6 GND (power), 7 NO C0, 8 COM C, 9 NC C1, 10 SCD (in), 11 NO D0, 12 COM D, 13 NC D1, 14 VCC (power), 15 NO A0, 16 COM A, 17 EP

## NLAS44599MNG
designator U?
Low Voltage Single Supply Dual DPDT Analog Switch, 2 to 5.5 V, -55 to 125 degC, 16-Pin QFN, Pb-Free, Tube; Manufacturer: On Semiconductor; PartNumber: NLAS44599MNG; Icc Max (uA): 8; VCC Max (V): 5.5; VCC Min (V): 2; DatasheetVersion: Rev. 14; PackageVersion: Rev. D, 06/2008; PackageReference: QFN-16-485G-01_D; PackageDescription: 16-Pin Quad Flat No-Lead, Body 3 x 3 mm, Pitch 0.5 mm; Supplier 1: Digi-Key; Supplier Part Number 1: NLAS44599MNGOS-ND; Supplier 2: Mouser; Supplier Part Number 2: 863-NLAS44599MNG; Packing: Tube; RoHS: TRUE; Mounting Technology: Surface Mount; ComponentLink1Description: Manufacturer URL; ComponentLink1URL: http://www.onsemi.com/; ComponentLink2Description: Datasheet; ComponentLink2URL: http://www.onsemi.com/pub_link/Collateral/NLAS44599-D.PDF; ComponentLink3Description: Package Specification; ComponentLink3URL: http://www.onsemi.cn/pub_link/Collateral/NB4L52-D.PDF
footprint ONSC-QFN-16-485G-01_D_V (QFN, 16-Leads, Body 3x3mm, Pitch 0.5mm, Thermal Pad 1.5x1.5mm)
pins: 1 NC A1, 2 SAB (in), 3 NO B0, 4 COM B, 5 NC B1, 6 GND (power), 7 NO C0, 8 COM C, 9 NC C1, 10 SCD (in), 11 NO D0, 12 COM D, 13 NC D1, 14 VCC (power), 15 NO A0, 16 COM A, 17 EP

## NLAS44599MNR2
designator U?
Low Voltage Single Supply Dual DPDT Analog Switch, 2 to 5.5 V, -55 to 125 degC, 16-Pin QFN, Tape and Reel; Manufacturer: On Semiconductor; PartNumber: NLAS44599MNR2; Icc Max (uA): 8; VCC Max (V): 5.5; VCC Min (V): 2; DatasheetVersion: Rev. 14; PackageVersion: Rev. D, 06/2008; PackageReference: QFN-16-485G-01_D; PackageDescription: 16-Pin Quad Flat No-Lead, Body 3 x 3 mm, Pitch 0.5 mm; Supplier 1: Digi-Key; Supplier Part Number 1: NLAS44599MNR2OSTR-ND; Supplier 2: Digi-Key; Supplier Part Number 2: NLAS44599MNR2OSCT-ND; Supplier 3: Digi-Key; Supplier Part Number 3: NLAS44599MNR2OSDKR-ND; Packing: Tape and Reel; RoHS: FALSE; Mounting Technology: Surface Mount; ComponentLink1Description: Manufacturer URL; ComponentLink1URL: http://www.onsemi.com/; ComponentLink2Description: Datasheet; ComponentLink2URL: http://www.onsemi.com/pub_link/Collateral/NLAS44599-D.PDF; ComponentLink3Description: Package Specification; ComponentLink3URL: http://www.onsemi.cn/pub_link/Collateral/NB4L52-D.PDF
footprint ONSC-QFN-16-485G-01_D_V (QFN, 16-Leads, Body 3x3mm, Pitch 0.5mm, Thermal Pad 1.5x1.5mm)
pins: 1 NC A1, 2 SAB (in), 3 NO B0, 4 COM B, 5 NC B1, 6 GND (power), 7 NO C0, 8 COM C, 9 NC C1, 10 SCD (in), 11 NO D0, 12 COM D, 13 NC D1, 14 VCC (power), 15 NO A0, 16 COM A, 17 EP

## NLAS44599MNR2G
designator U?
Low Voltage Single Supply Dual DPDT Analog Switch, 2 to 5.5 V, -55 to 125 degC, 16-Pin QFN, Pb-Free, Tape and Reel; Manufacturer: On Semiconductor; PartNumber: NLAS44599MNR2G; Icc Max (uA): 8; VCC Max (V): 5.5; VCC Min (V): 2; DatasheetVersion: Rev. 14; PackageVersion: Rev. D, 06/2008; PackageReference: QFN-16-485G-01_D; PackageDescription: 16-Pin Quad Flat No-Lead, Body 3 x 3 mm, Pitch 0.5 mm; Supplier 1: Digi-Key; Supplier Part Number 1: NLAS44599MNR2GOSTR-ND; Supplier 2: Digi-Key; Supplier Part Number 2: NLAS44599MNR2GOSCT-ND; Supplier 3: Mouser; Supplier Part Number 3: 863-NLAS44599MNR2G; Packing: Tape and Reel; RoHS: TRUE; Mounting Technology: Surface Mount; ComponentLink1Description: Manufacturer URL; ComponentLink1URL: http://www.onsemi.com/; ComponentLink2Description: Datasheet; ComponentLink2URL: http://www.onsemi.com/pub_link/Collateral/NLAS44599-D.PDF; ComponentLink3Description: Package Specification; ComponentLink3URL: http://www.onsemi.cn/pub_link/Collateral/NB4L52-D.PDF
footprint ONSC-QFN-16-485G-01_D_V (QFN, 16-Leads, Body 3x3mm, Pitch 0.5mm, Thermal Pad 1.5x1.5mm)
pins: 1 NC A1, 2 SAB (in), 3 NO B0, 4 COM B, 5 NC B1, 6 GND (power), 7 NO C0, 8 COM C, 9 NC C1, 10 SCD (in), 11 NO D0, 12 COM D, 13 NC D1, 14 VCC (power), 15 NO A0, 16 COM A, 17 EP